# Altium schematic symbol library CT2220.SchLib: 1 symbol
Pins are listed as number, name and electrical type; pins without a type are passive.

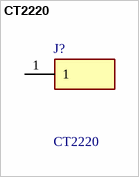
[diagram p0: symbol CT2220]

## CT2220
designator J?
Test Plugs & Test Jacks 4mmSocket,SolderHole Uninsulated; Manufacturer_Name: Cal Test; Geometry.Height: 23.5mm; Manufacturer_Part_Number: CT2220; Mouser Part Number: 510-CT2220; Mouser Price/Stock: https://www.mouser.com/Search/Refine.aspx?Keyword=510-CT2220; Arrow Part Number: *; Arrow Price/Stock: *; Datasheet Link: https://as.caltestelectronics.com/public/attachments/CT2220.pdf
footprint CT2220
pins: 1